# Altium schematic symbol library only pins.SchLib: 8 symbols
Pins are listed as number, name and electrical type; pins without a type are passive.

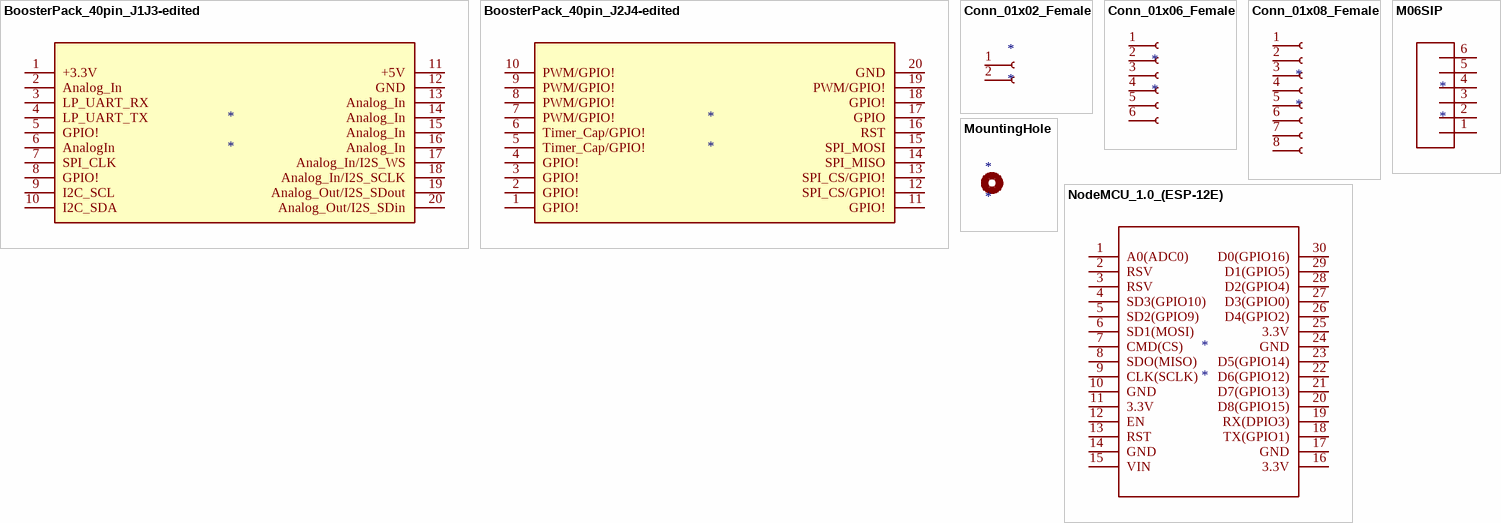
[diagram p0: symbols BoosterPack_40pin_J1J3-edited to NodeMCU_1.0_(ESP-12E)]

## BoosterPack_40pin_J1J3-edited
designator *
pins: 1 +3.3V, 2 Analog_In, 3 LP_UART_RX, 4 LP_UART_TX, 5 GPIO!, 6 AnalogIn, 7 SPI_CLK, 8 GPIO!, 9 I2C_SCL, 10 I2C_SDA, 11 +5V, 12 GND, 13 Analog_In, 14 Analog_In, 15 Analog_In, 16 Analog_In, 17 Analog_In/I2S_WS, 18 Analog_In/I2S_SCLK, 19 Analog_Out/I2S_SDout, 20 Analog_Out/I2S_SDin

## BoosterPack_40pin_J2J4-edited
designator *
pins: 1 GPIO!, 2 GPIO!, 3 GPIO!, 4 GPIO!, 5 Timer_Cap/GPIO!, 6 Timer_Cap/GPIO!, 7 PWM/GPIO!, 8 PWM/GPIO!, 9 PWM/GPIO!, 10 PWM/GPIO!, 11 GPIO!, 12 SPI_CS/GPIO!, 13 SPI_CS/GPIO!, 14 SPI_MISO, 15 SPI_MOSI, 16 RST, 17 GPIO, 18 GPIO!, 19 PWM/GPIO!, 20 GND

## Conn_01x02_Female
designator *
pins: 1 Pin_1, 2 Pin_2

## Conn_01x06_Female
designator *
pins: 1 Pin_1, 2 Pin_2, 3 Pin_3, 4 Pin_4, 5 Pin_5, 6 Pin_6

## Conn_01x08_Female
designator *
pins: 1 Pin_1, 2 Pin_2, 3 Pin_3, 4 Pin_4, 5 Pin_5, 6 Pin_6, 7 Pin_7, 8 Pin_8

## M06SIP
designator *
pins: 1, 2, 3, 4, 5, 6

## MountingHole
designator *

## NodeMCU_1.0_(ESP-12E)
designator *
pins: 1 A0(ADC0), 2 RSV, 3 RSV, 4 SD3(GPIO10), 5 SD2(GPIO9), 6 SD1(MOSI), 7 CMD(CS), 8 SDO(MISO), 9 CLK(SCLK), 10 GND, 11 3.3V, 12 EN, 13 RST, 14 GND, 15 VIN, 16 3.3V, 17 GND, 18 TX(GPIO1), 19 RX(DPIO3), 20 D8(GPIO15), 21 D7(GPIO13), 22 D6(GPIO12), 23 D5(GPIO14), 24 GND, 25 3.3V, 26 D4(GPIO2), 27 D3(GPIO0), 28 D2(GPIO4), 29 D1(GPIO5), 30 D0(GPIO16)